# Altium schematic symbol library 691 309 510 0xx.SchLib: 6 symbols
Pins are listed as number, name and electrical type; pins without a type are passive.

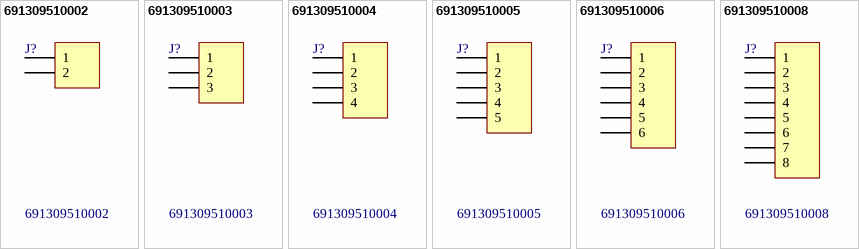
[diagram p0: symbols 691309510002 to 691309510008]

## 691309510002
designator J?
WR-TBL Terminal block - serie 3095; Manufacturer: Würth Elektronik eiSos GmbH; ComponentLink1 Description: Manufacturer; ComponentLink2 Description: Datasheet; NoPins: 02; Created Date: 09 April 2014; partNo: 691309510002; ComponentLink1URL: http://www.we-online.com; ComponentLink2URL: http://katalog.we-online.de/em/datasheet/6913095100xx.pdf; Created by: Karrer Zheng; Value: 691309510002
footprint 691309510002 (5.08 mm Reversed Gender Horizontal PCB Header - 02p)
pins: 1, 2

## 691309510003
designator J?
WR-TBL Terminal block - serie 3095; Manufacturer: Würth Elektronik eiSos GmbH; ComponentLink1 Description: Manufacturer; ComponentLink2 Description: Datasheet; NoPins: 03; Created Date: 09 April 2014; partNo: 691309510003; ComponentLink1URL: http://www.we-online.com; ComponentLink2URL: http://katalog.we-online.de/em/datasheet/6913095100xx.pdf; Created by: Karrer Zheng; Value: 691309510003
footprint 691309510003 (5.08 mm Reversed Gender Horizontal PCB Header - 03p)
pins: 1, 2, 3

## 691309510004
designator J?
WR-TBL Terminal block - serie 3095; Manufacturer: Würth Elektronik eiSos GmbH; ComponentLink1 Description: Manufacturer; ComponentLink2 Description: Datasheet; NoPins: 04; Created Date: 09 April 2014; partNo: 691309510004; ComponentLink1URL: http://www.we-online.com; ComponentLink2URL: http://katalog.we-online.de/em/datasheet/6913095100xx.pdf; Created by: Karrer Zheng; Value: 691309510004
footprint 691309510004 (5.08 mm Reversed Gender Horizontal PCB Header - 04p)
pins: 1, 2, 3, 4

## 691309510005
designator J?
WR-TBL Terminal block - serie 3095; Manufacturer: Würth Elektronik eiSos GmbH; ComponentLink1 Description: Manufacturer; ComponentLink2 Description: Datasheet; NoPins: 05; Created Date: 09 April 2014; partNo: 691309510005; ComponentLink1URL: http://www.we-online.com; ComponentLink2URL: http://katalog.we-online.de/em/datasheet/6913095100xx.pdf; Created by: Karrer Zheng; Value: 691309510005
footprint 691309510005 (5.08 mm Reversed Gender Horizontal PCB Header - 05p)
pins: 1, 2, 3, 4, 5

## 691309510006
designator J?
WR-TBL Terminal block - serie 3095; Manufacturer: Würth Elektronik eiSos GmbH; ComponentLink1 Description: Manufacturer; ComponentLink2 Description: Datasheet; NoPins: 06; Created Date: 09 April 2014; partNo: 691309510006; ComponentLink1URL: http://www.we-online.com; ComponentLink2URL: http://katalog.we-online.de/em/datasheet/6913095100xx.pdf; Created by: Karrer Zheng; Value: 691309510006
footprint 691309510006 (5.08 mm Reversed Gender Horizontal PCB Header - 06p)
pins: 1, 2, 3, 4, 5, 6

## 691309510008
designator J?
WR-TBL Terminal block - serie 3095; Manufacturer: Würth Elektronik eiSos GmbH; ComponentLink1 Description: Manufacturer; ComponentLink2 Description: Datasheet; NoPins: 08; Created Date: 09 April 2014; partNo: 691309510008; ComponentLink1URL: http://www.we-online.com; ComponentLink2URL: http://katalog.we-online.de/em/datasheet/6913095100xx.pdf; Created by: Karrer Zheng; Value: 691309510008
footprint 691309510008 (5.08 mm Reversed Gender Horizontal PCB Header - 08p)
pins: 1, 2, 3, 4, 5, 6, 7, 8